# EAGLE library part 5025700893 (library 5025700893)
1.10mm Pitch microSD Memory Card Connector, Normal Mount Surface Mount, Push-Push Type
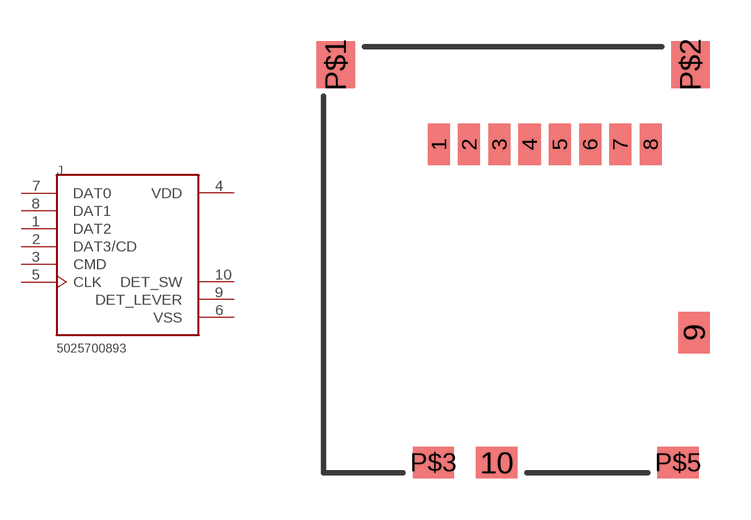
[diagram p0: symbol with the pads of MOLEX_5025700893; footprint MOLEX_5025700893]

Designator prefix J

## 5025700893 (Description: 10 (8 + 2) Position Card Connector Secure Digital - microSD™ Surface Mount, Right Angle Gold; Digi-Key_Part_Number: WM19093CT-ND; MF: Molex; MP: 5025700893; Package: None; Purchase-URL: https://pricing.snapeda.com/search/part/5025700893/?ref=eda)  [MOLEX_5025700893]
1  DAT2
2  DAT3/CD
3  CMD
4  VDD  pwr
5  CLK
6  VSS  pwr
7  DAT0
8  DAT1
9  DET_LEVER  pas
10  DET_SW  pas

## Footprint MOLEX_5025700893 (pad centres in mm)
smd 0.8 x 1.5: 1 -2.7,4.2; 2 -1.6,4.2; 3 -0.5,4.2; 4 0.6,4.2; 5 1.7,4.2; 6 2.8,4.2; 7 3.9,4.2; 8 5,4.2
smd 1.15 x 1.5: 9 6.575,-2.65
smd 1.5 x 1.15: 10 -0.6,-7.375; P$3 -2.9,-7.375; P$5 6,-7.375
smd 1.4 x 1.7: P$1 -6.45,7.1; P$2 6.45,7.1